# EAGLE library part TXS0108EPWR (library MAÑE)
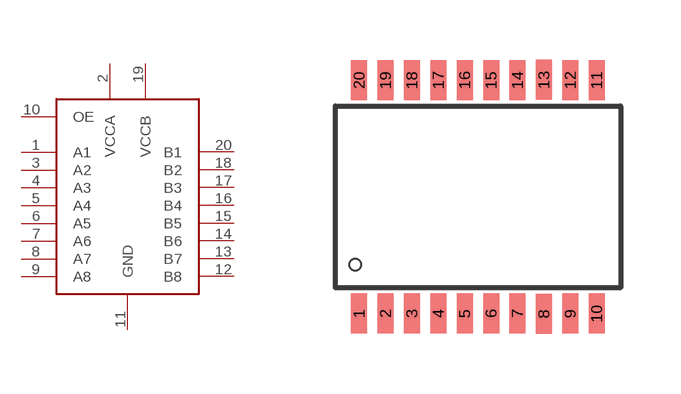
[diagram p7: symbol with the pads of TSSOP-20; footprint TSSOP-20]

Designator prefix -

## TXS0108EPWR  [TSSOP-20]
1  A1
2  VCCA
3  A2
4  A3
5  A4
6  A5
7  A6
8  A7
9  A8
10  OE
11  GND
12  B8
13  B7
14  B6
15  B5
16  B4
17  B3
18  B2
19  VCCB
20  B1

## Footprint TSSOP-20 (pad centres in mm)
smd 0.4 x 1: 1 -2.693,-2.937; 2 -2.032,-2.937; 3 -1.372,-2.937; 4 -0.712,-2.937; 5 -0.051,-2.937; 6 0.609,-2.937; 7 1.27,-2.937; 8 1.93,-2.943; 9 2.59,-2.937; 10 3.251,-2.937; 11 3.251,2.905; 12 2.59,2.905; 13 1.93,2.911; 14 1.27,2.905; 15 0.609,2.905; 16 -0.051,2.905; 17 -0.712,2.905; 18 -1.372,2.905; 19 -2.032,2.905; 20 -2.693,2.905